# Altium schematic symbol library CT3151SP-0.SchLib: 1 symbol
Pins are listed as number, name and electrical type; pins without a type are passive.

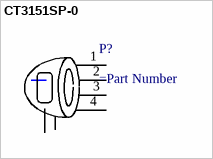
[diagram p0: symbol CT3151SP-0]

## CT3151SP-0
designator P?
=Description
pins: 1, 2, 3, 4